# Altium footprint library TQFP50P1200X1200X160-64N.PcbLib: 1 footprints
Each footprint in its own frame and in the unit in brackets; x right, y up, seen from the top. Pads: shape width x height; smd on the part's side, far side on the other; paste and mask are expansions set on the pad; w line width, h text height; cw(c..) or ccw(c..) is an arc to the next point about the centre after c.
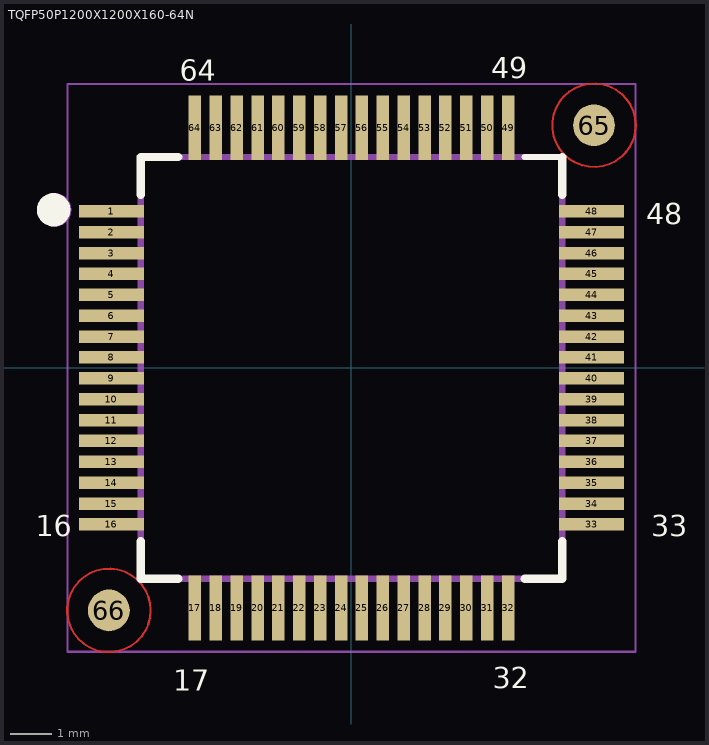
[diagram p0: the footprint, top view; thin cyan lines are the x and y axes]

## TQFP50P1200X1200X160-64N [mm]
height 1.6
pads (66):
  rect 1.55x0.3 smd mask+0: 1(-5.75,3.75) 2(-5.75,3.25) 3(-5.75,2.75) 4(-5.75,2.25) 5(-5.75,1.75) 6(-5.75,1.25) 7(-5.75,0.75) 8(-5.75,0.25) 9(-5.75,-0.25) 10(-5.75,-0.75) 11(-5.75,-1.25) 12(-5.75,-1.75) 13(-5.75,-2.25) 14(-5.75,-2.75) 15(-5.75,-3.25) 16(-5.75,-3.75) 33(5.75,-3.75) 34(5.75,-3.25) 35(5.75,-2.75) 36(5.75,-2.25) 37(5.75,-1.75) 38(5.75,-1.25) 39(5.75,-0.75) 40(5.75,-0.25) 41(5.75,0.25) 42(5.75,0.75) 43(5.75,1.25) 44(5.75,1.75) 45(5.75,2.25) 46(5.75,2.75) 47(5.75,3.25) 48(5.75,3.75)
  rect 0.3x1.55 smd mask+0: 17(-3.75,-5.75) 18(-3.25,-5.75) 19(-2.75,-5.75) 20(-2.25,-5.75) 21(-1.75,-5.75) 22(-1.25,-5.75) 23(-0.75,-5.75) 24(-0.25,-5.75) 25(0.25,-5.75) 26(0.75,-5.75) 27(1.25,-5.75) 28(1.75,-5.75) 29(2.25,-5.75) 30(2.75,-5.75) 31(3.25,-5.75) 32(3.75,-5.75) 49(3.75,5.75) 50(3.25,5.75) 51(2.75,5.75) 52(2.25,5.75) 53(1.75,5.75) 54(1.25,5.75) 55(0.75,5.75) 56(0.25,5.75) 57(-0.25,5.75) 58(-0.75,5.75) 59(-1.25,5.75) 60(-1.75,5.75) 61(-2.25,5.75) 62(-2.75,5.75) 63(-3.25,5.75) 64(-3.75,5.75)
  round 1 smd paste-0.5 mask+0.5: 65(5.81,5.81) 66(-5.81,-5.81)
Top Layer:
  circle w0.05: c5.81,5.81 r1
  circle w0.05: c-5.81,-5.81 r1
Top Overlay:
  circle w0.4: c-7.134,3.785 r0.2
  lines w0.15: 4.15,5.05 5.05,5.05
  lines w0.2: -5.05,-4.15 -5.05,-5.05 -4.15,-5.05 ; -5.05,4.15 -5.05,5.05 -4.15,5.05 ; 4.15,-5.05 5.05,-5.05 5.05,-4.15 ; 5.05,4.15 5.05,5.05
  text "64" at -4.119,6.879 h0.5
  text "49" at 3.351,6.934 h0.5
  text "48" at 7.06,3.434 h0.5
  text "33" at 7.182,-4.035 h0.5
  text "32" at 3.378,-7.673 h0.5
  text "17" at -4.264,-7.729 h0.5
  text "16" at -7.56,-4.035 h0.5
Mechanical 13:
  circle w0.4: c-7.109,3.785 r0.2
  lines w0.15: -5.05,-5.05 -5.05,5.05 5.05,5.05 5.05,-5.05 -5.05,-5.05
  text ".Designator" at -5.055,-0.457 h1
Mechanical 15:
  lines w0.05: -6.8,-6.8 6.8,-6.8 6.8,6.8 -6.8,6.8 -6.8,-6.8
3D body: height 1.6, standoff 0, extent -5.125,-5.125 5.125,5.125